# Altium footprint library SOP254P1015X230-4N.PcbLib: 1 footprints
Each footprint in its own frame and in the unit in brackets; x right, y up, seen from the top. Pads: shape width x height; smd on the part's side, far side on the other; paste and mask are expansions set on the pad; w line width, h text height; cw(c..) or ccw(c..) is an arc to the next point about the centre after c.
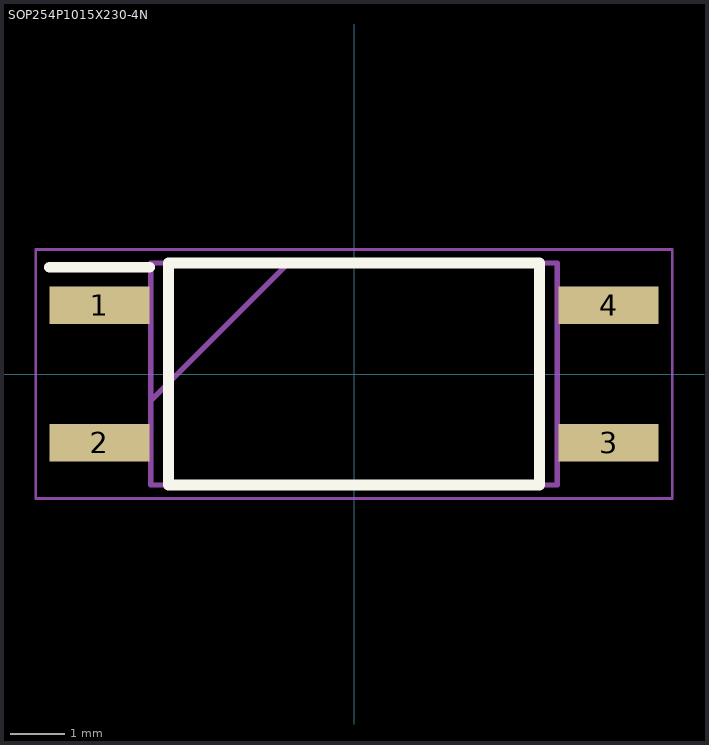
[diagram p0: the footprint, top view; thin cyan lines are the x and y axes]

## SOP254P1015X230-4N [mm]
pads (4):
  rect 1.85x0.7 smd: 1(-4.7,1.27) 2(-4.7,-1.27) 3(4.7,-1.27) 4(4.7,1.27)
Top Overlay:
  lines w0.2: -5.625,1.97 -3.775,1.97 ; -3.425,-2.05 3.425,-2.05 3.425,2.05 -3.425,2.05 -3.425,-2.05
Mechanical 15:
  lines w0.1: -3.75,-0.49 -1.21,2.05 ; -3.75,-2.05 3.75,-2.05 3.75,2.05 -3.75,2.05 -3.75,-2.05
Mechanical 20:
  lines w0.05: -5.875,-2.3 5.875,-2.3 5.875,2.3 -5.875,2.3 -5.875,-2.3